# EAGLE library part NRF8001-BREAKOUT (library mylibrary)
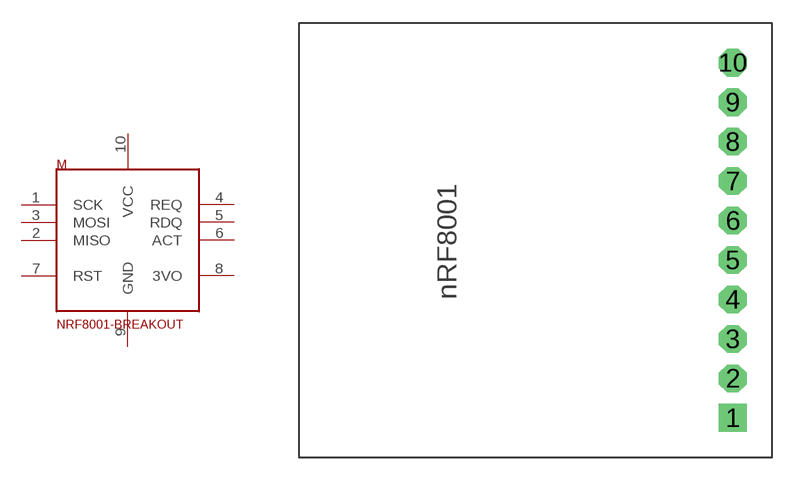
[diagram p0: symbol with the pads of NRF8001-BREAKOUT; footprint NRF8001-BREAKOUT]

Designator prefix M

## NRF8001-BREAKOUT  [NRF8001-BREAKOUT]
1  SCK  in
2  MISO  out
3  MOSI  in
4  REQ  in
5  RDQ  out
6  ACT  out
7  RST  in
8  3VO  out
9  GND  pwr
10  VCC  pwr

## Footprint NRF8001-BREAKOUT (pad centres in mm)
drill 1 pad 1.778 square: 1 0,0
drill 1 pad 1.778 octagon: 2 0,2.54; 3 0,5.08; 4 0,7.62; 5 0,10.16; 6 0,12.7; 7 0,15.24; 8 0,17.78; 9 0,20.32; 10 0,22.86